# Altium schematic symbol library MS-Electronic.SchLib: 364 symbols (part 1 of 4)
Pins are listed as number, name and electrical type; pins without a type are passive.

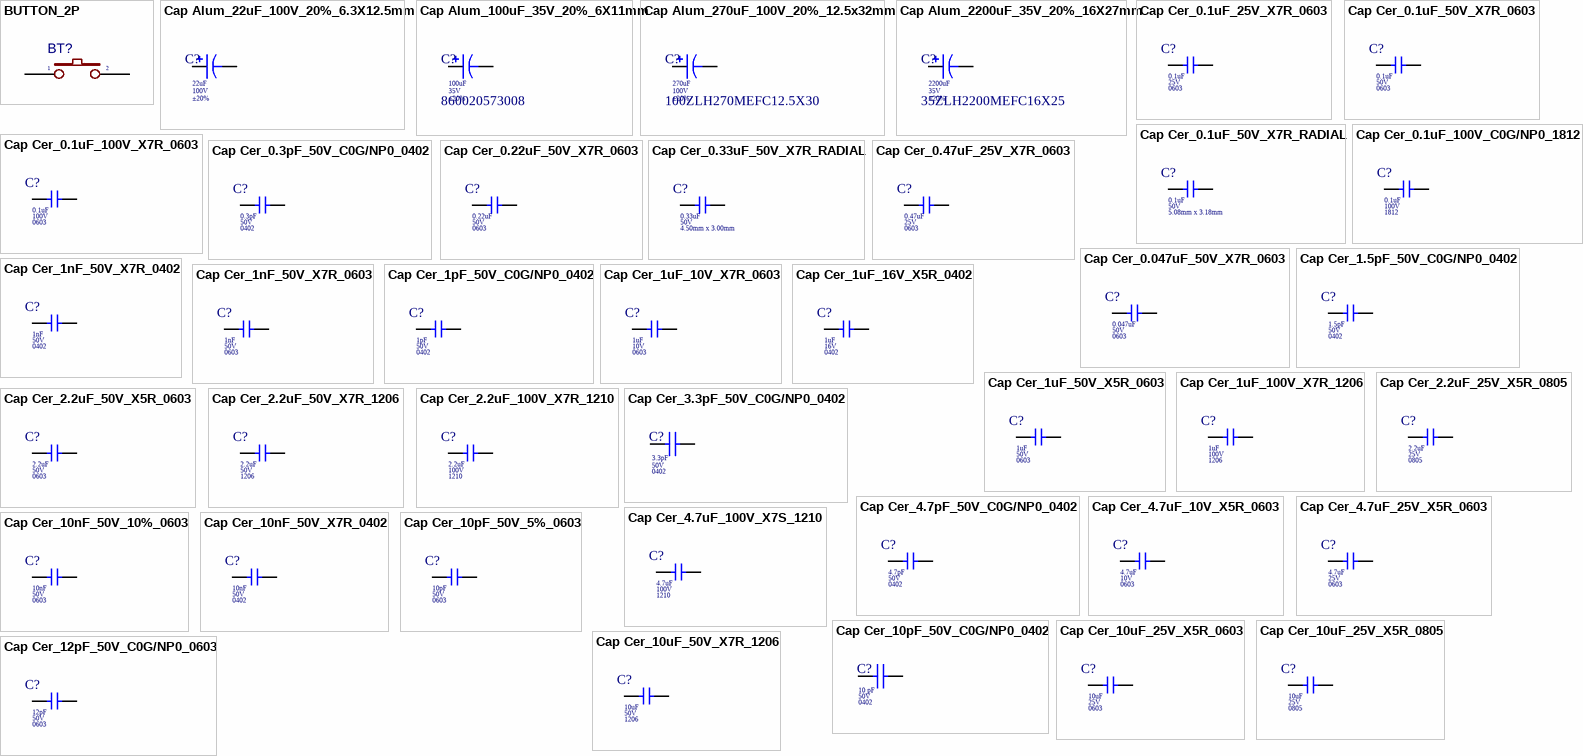
[diagram p0: symbols BUTTON_2P to Cap Cer_12pF_50V_C0G/NP0_0603]

## BUTTON_2P
designator BT?  (value not drawn)
TACT 6.0 X 3.5, 2.5 MM H, 180GF,; Manufacturer Part Number: 1502-2(180g); Description SEL: TACT 6.0 X 3.5, 2.5 MM H, 180GF,; Footprint Type: SMD; ComponentLink1Description: CXT; ComponentLink1URL: https://linhkien.cxtvn.com/1779-nut-nhan-smd-2p.html
footprint BUTTON_2P_SMD
pins: 1, 2

## Cap Alum_22uF_100V_20%_6.3X12.5mm
designator C?, comment Tolerance: ±20%  Voltage: 100V  Capacitance: 22uF  (hidden comment: ESK226M100AE3AA)
CAP ALUM 22UF 20% 100V RADIAL TH; Manufacturer: KEMET; Hight: 12.5mm; Part Number: ESK226M100AE3AA; Dimension: 6.3mm; ComponentLink1Description: BLK; ComponentLink1URL: https://banlinhkien.com/tu-hoa-22uf-100v-10-chiec-p22441916.html; ComponentLink2Description: DIGIKEY; ComponentLink2URL: https://www.digikey.bg/en/products/detail/kemet/ESK226M100AE3AA/13176289
footprint CAP ALUM_6.3X12.5mm
pins: 1, 2
1 alternate drawing of the same symbol

## Cap Alum_100uF_35V_20%_6X11mm
designator C?, comment 860020573008  Tolerance: ±20%  Voltage: 35V  Capacitance: 100uF
CAP ALUM 100UF 20% 35V RADIAL TH; Manufacturer: Würth Elektronik; Hight: 11mm; Part Number: 860020573008; Dimension: 6mm; ComponentLink1Description: BLK; ComponentLink1URL: https://banlinhkien.com/tu-hoa-100uf-35v-6x11mm-10-chiec-p22441912.html; ComponentLink2Description: DIGIKEY; ComponentLink2URL: https://www.digikey.bg/en/products/detail/w%C3%BCrth-elektronik/860020573008/5727177
footprint CAP ALUM_6X11mm
pins: 1, 2
1 alternate drawing of the same symbol

## Cap Alum_270uF_100V_20%_12.5x32mm
designator C?, comment 100ZLH270MEFC12.5X30  Tolerance: ±20%  Voltage: 100V  Capacitance: 270uF
CAP ALUM 270UF 20% 100V RADIAL; Manufacturer: Rubycon; Hight: 32mm; Part Number: 100ZLH270MEFC12.5X30; Dimension: 12.5mm; ComponentLink2Description: DIGIKEY; ComponentLink2URL: https://www.digikey.com/en/products/detail/rubycon/100ZLH270MEFC12-5X30/3564205?s=N4IgTCBcDaIIwAYEC0AyAJMB2BBZAogGIDCcYAdAKwAaAzAiALoC%2BQA
footprint CAP ALUM_13mmx32mm
pins: 1, 2
1 alternate drawing of the same symbol

## Cap Alum_2200uF_35V_20%_16X27mm
designator C?, comment 35ZLH2200MEFC16X25  Tolerance: ±20%  Voltage: 35V  Capacitance: 2200uF
CAP ALUM 2200UF 20% 35V RADIAL; Manufacturer: Rubycon; Hight: 27mm; Part Number: 35ZLH2200MEFC16X25; Dimension: 16mm; ComponentLink1Description: TGIC; ComponentLink1URL: https://www.thegioiic.com/tu-hoa-2200uf-35v-16x27mm-xuyen-lo; ComponentLink2Description: DIGIKEY; ComponentLink2URL: https://www.digikey.bg/en/products/detail/rubycon/35ZLH2200MEFC16X25/3564493; ComponentLink3Description: BLK; ComponentLink3URL: https://banlinhkien.com/tu-hoa-2200uf-35v-16x25mm-p6646100.html
footprint CAP ALUM_16X27mm
pins: 1, 2
1 alternate drawing of the same symbol

## Cap Cer_0.1uF_25V_X7R_0603
designator C?, comment value 0.1uF  Package: 0603  Voltage: 25V  (hidden comment: CC0603KRX7R8BB104)
CAP CER 0.1UF 25V X7R 0603; ComponentLink1Description: New link; ComponentLink1URL: https://www.digikey.com/en/products/detail/yageo/CC0603KRX7R8BB104/2103079
footprint Cap_0603
pins: 1, 2

## Cap Cer_0.1uF_50V_X7R_0603
designator C?, comment value 0.1uF  Package: 0603  Voltage: 50V  (hidden comment: CL10B104KB8NNNC)
CAP CER 0.1UF 50V X7R 0603; ComponentLink1Description: CXT; ComponentLink1URL: https://linhkien.cxtvn.com/1981-tu-0603-khong-phan-cuc.html; ComponentLink2Description: DIGIKEY; ComponentLink2URL: https://www.digikey.com/en/products/detail/samsung-electro-mechanics/CL10B104KB8NNNC/3886658
footprint Cap_0603
pins: 1, 2

## Cap Cer_0.1uF_50V_X7R_RADIAL
designator C?, comment value 0.1uF  Dimension: 5.08mm x 3.18mm  Voltage: 50V  (hidden comment: C320C104K5R5TA)
CAP CER 0.1UF 50V X7R RADIAL; ComponentLink1Description: CXT; ComponentLink1URL: https://linhkienchatluong.vn/tu-monolithic---tu-vang/tu-su-vang-104-100nf-01uf-50v-10-10c_sp458_ct14569.aspx; ComponentLink2Description: DIGIKEY; ComponentLink2URL: https://www.digikey.bg/en/products/detail/kemet/C320C104K5R5TA/818040
footprint CAP Cer_RADIAL_5.08mm x 3.18mm
pins: 1, 2

## Cap Cer_0.1uF_100V_C0G/NP0_1812
designator C?, comment value 0.1uF  Package: 1812  Voltage: 100V  (hidden comment: C1812C104J1GACAUTO)
CAP CER 0.1UF 100V C0G/NP0 1812; ComponentLink1Description: CXT; ComponentLink2Description: DIGIKEY; ComponentLink2URL: https://www.digikey.bg/en/products/detail/kemet/C1812C104J1GACAUTO/7516235?s=N4IgTCBcDaIMIEYAcCyIAwBYBSCDiAgnAQKoAqA8iALoC%2BQA
footprint CAP_1812
pins: 1, 2

## Cap Cer_0.1uF_100V_X7R_0603
designator C?, comment value 0.1uF  Package: 0603  Voltage: 100V  (hidden comment: CL10B104KC8NNNC)
CAP CER 0.1UF 100V X7R 0603; ComponentLink1Description: CXT; ComponentLink1URL: https://linhkien.cxtvn.com/4493-tu-0603-khong-phan-cuc.html; ComponentLink2Description: DIGIKEY; ComponentLink2URL: https://www.digikey.bg/en/products/detail/samsung-electro-mechanics/CL10B104KC8NNNC/5961291
footprint Cap_0603
pins: 1, 2

## Cap Cer_0.3pF_50V_C0G/NP0_0402
designator C?, comment value 0.3pF  Package: 0402  Voltage: 50V  (hidden comment: GJM1555C1HR30WB01D)
CAP CER 0.3PF 50V C0G/NP0 0402; ComponentLink1Description: New link; ComponentLink1URL: https://www.digikey.bg/en/products/detail/murata-electronics/GJM1555C1HR30WB01D/2593245?s=N4IgTCBcDaIOICkCyBGArBgwigEgJQGYAGAdQCEiUAREAXQF8g
footprint Cap_0402
pins: 1, 2

## Cap Cer_0.22uF_50V_X7R_0603
designator C?, comment value 0.22uF  Package: 0603  Voltage: 50V  (hidden comment: GCM188R71H224KA64D)
CAP CER 0.22UF 50V X7R 0603; ComponentLink1Description: DIGIKEY; ComponentLink1URL: https://www.digikey.com/en/products/detail/murata-electronics/GCM188R71H224KA64D/2123158
footprint Cap_0603
pins: 1, 2

## Cap Cer_0.33uF_50V_X7R_RADIAL
designator C?, comment value 0.33uF  Dimension: 4.50mm x 3.00mm  Voltage: 50V  (hidden comment: FG24X7R1H334KNT06)
CAP CER 0.33UF 50V X7R RADIAL; ComponentLink1Description: CXT; ComponentLink1URL: https://linhkienchatluong.vn/tu-monolithic---tu-vang/tu-su-vang-334-330nf-033uf-50v-10c_sp458_ct14571.aspx; ComponentLink2Description: DIGIKEY; ComponentLink2URL: https://www.digikey.bg/en/products/detail/tdk-corporation/FG24X7R1H334KNT06/5802993
footprint CAP CER_RADIAL_4.5X3mm
pins: 1, 2

## Cap Cer_0.47uF_25V_X7R_0603
designator C?, comment value 0.47uF  Package: 0603  Voltage: 25V  (hidden comment: 0603B474K250CT)
CAP CER 0.47UF 25V X7R 0603; ComponentLink1Description: CXT; ComponentLink1URL: https://linhkien.cxtvn.com/4765-tu-0603-khong-phan-cuc.html; ComponentLink2Description: DIGIKEY; ComponentLink2URL: https://www.digikey.bg/en/products/detail/walsin-technology-corporation/0603B474K250CT/9354949?s=N4IgTCBcDaIAwDY4GYBCAWA7Og0mArHAMIAqIAugL5A
footprint Cap_0603
pins: 1, 2

## Cap Cer_0.047uF_50V_X7R_0603
designator C?, comment value 0.047uF  Package: 0603  Voltage: 50V  (hidden comment: C1608X7R1H473K080AA)
CAP CER 0.047UF 50V X7R 0603; ComponentLink1Description: TGIC; ComponentLink1URL: https://www.thegioiic.com/tu-gom-0603-47nf-50v; ComponentLink2Description: DIGIKEY; ComponentLink2URL: https://www.digikey.bg/en/products/detail/tdk-corporation/C1608X7R1H473K080AA/513823
footprint Cap_0603
pins: 1, 2

## Cap Cer_1.5pF_50V_C0G/NP0_0402
designator C?, comment value 1.5pF  Package: 0402  Voltage: 50V  (hidden comment: RF15N1R5B500CT)
CAP CER 1.5PF 50V C0G/NP0 0402; ComponentLink1Description: CXT; ComponentLink1URL: https://linhkien.cxtvn.com/8768-tu-khong-phan-cuc-0402.html; ComponentLink2Description: MOUSER; ComponentLink2URL: https://www.mouser.com/ProductDetail/Walsin/RF15N1R5B500CT?qs=ZrPdAQfJ6DML5%252BefXykpgg%3D%3D
footprint Cap_0402
pins: 1, 2

## Cap Cer_1nF_50V_X7R_0402
designator C?, comment value 1nF  Package: 0402  Voltage: 50V  (hidden comment: GRM155R71H102KA01D)
CAP CER 1000PF 50V X7R 0402; ComponentLink1Description: CXT; ComponentLink1URL: https://linhkien.cxtvn.com/3435-tu-khong-phan-cuc-0402.html; ComponentLink2Description: DIGIKEY; ComponentLink2URL: https://www.digikey.bg/en/products/detail/murata-electronics/GRM155R71H102KA01D/587225?s=N4IgTCBcDaIOICUCyBGArGhB2FAJFADGANICCBKAIiALoC%2BQA
footprint Cap_0402
pins: 1, 2

## Cap Cer_1nF_50V_X7R_0603
designator C?, comment value 1nF  Package: 0603  Voltage: 50V  (hidden comment: C0603X102K5RAC3316)
CAP CER 0603 1NF 50V X7R 10%; ComponentLink1Description: CXT; ComponentLink1URL: https://linhkien.cxtvn.com/2701-tu-0603-khong-phan-cuc.html; ComponentLink2Description: DIGIKEY; ComponentLink2URL: https://www.digikey.com/en/products/detail/kemet/C0603X102K5RAC3316/10315783
footprint Cap_0603
pins: 1, 2

## Cap Cer_1pF_50V_C0G/NP0_0402
designator C?, comment value 1pF  Package: 0402  Voltage: 50V  (hidden comment: CC0402BRNPO9BN1RO)
CAP CER 1PF 50V C0G/NP0 0402; ComponentLink1Description: New link; ComponentLink1URL: https://linhkien.cxtvn.com/8767-tu-khong-phan-cuc-0402.html
footprint Cap_0402
pins: 1, 2

## Cap Cer_1uF_10V_X7R_0603
designator C?, comment value 1uF  Package: 0603  Voltage: 10V  (hidden comment: CL10B105KP8NNNC)
CAP CER 1UF 10V X7R 0603; ComponentLink1Description: 25V; ComponentLink1URL: https://linhkien.cxtvn.com/11400-tu-0603-khong-phan-cuc.html; ComponentLink2Description: 10V; ComponentLink2URL: https://www.digikey.com/en/products/detail/samsung-electro-mechanics/CL10B105KP8NNNC/3887604
footprint Cap_0603
pins: 1, 2

## Cap Cer_1uF_16V_X5R_0402
designator C?, comment value 1uF  Package: 0402  Voltage: 16V  (hidden comment: GRM155R61C105KA12D)
CAP CER 1UF 16V X5R 0402; ComponentLink1Description: CXT; ComponentLink1URL: https://linhkien.cxtvn.com/4361-tu-khong-phan-cuc-0402.html; ComponentLink2Description: DIGIKEY; ComponentLink2URL: https://www.digikey.bg/en/products/detail/murata-electronics/GRM155R61C105KA12D/4905129?s=N4IgTCBcDaIOICUCyBGArGhA2FBhFADGgNICCKYAIiALoC%2BQA
footprint Cap_0402
pins: 1, 2

## Cap Cer_1uF_50V_X5R_0603
designator C?, comment value 1uF  Package: 0603  Voltage: 50V  (hidden comment: CL10A105KB8NNNC)
CAP CER 1UF 50V X5R 0603; ComponentLink1Description: BLK; ComponentLink1URL: https://banlinhkien.com/tu-0603-1051uf-50v-10-10c-p6646055.html; ComponentLink2Description: DIGIKEY; ComponentLink2URL: https://www.digikey.com/en/products/detail/samsung-electro-mechanics/CL10A105KB8NNNC/3887518?s=N4IgTCBcDaIMIBkCMAGAgqgrAaQEIA4A5YuEAXQF8g
footprint Cap_0603
pins: 1, 2

## Cap Cer_1uF_100V_X7R_1206
designator C?, comment value 1uF  Package: 1206  Voltage: 100V  (hidden comment: 1206B105K101CT)
CAP CER 1UF 100V X7R 1206; ComponentLink1Description: CXT; ComponentLink1URL: https://linhkien.cxtvn.com/3027-tu-khong-phan-cuc-1206.html; ComponentLink2Description: DIGIKEY; ComponentLink2URL: https://www.digikey.bg/en/products/detail/walsin-technology-corporation/1206B105K101CT/14836811?s=N4IgTCBcDaIIxgAwDYBCdEFYDSG4GEAVEAXQF8g
footprint Cap_1206
pins: 1, 2

## Cap Cer_2.2uF_25V_X5R_0805
designator C?, comment value 2.2uF  Package: 0805  Voltage: 25V  (hidden comment: 0805X225K250CT)
CAP CER 2.2UF 25V X5R 0805; ComponentLink1Description: CXT; ComponentLink1URL: https://linhkien.cxtvn.com/2664-tu-khong-phan-cuc-0805.html; ComponentLink2Description: DIGIKEY; ComponentLink2URL: https://www.digikey.bg/en/products/detail/walsin-technology-corporation/0805X225K250CT/14836825?s=N4IgTCBcDaIAwA44FYAaYzINKbgYQBUQBdAXyA
footprint Cap_0805
pins: 1, 2

## Cap Cer_2.2uF_50V_X5R_0603
designator C?, comment value 2.2uF  Package: 0603  Voltage: 50V  (hidden comment: GRM188R61H225KE11D)
CAP CER 2.2UF 50V X5R 0603; ComponentLink1Description: CXT; ComponentLink1URL: https://linhkien.cxtvn.com/2354-tu-0603-khong-phan-cuc.html; ComponentLink2Description: DIGIKEY; ComponentLink2URL: https://www.digikey.sg/en/products/detail/murata-electronics/GRM188R61H225KE11D/4905363
footprint Cap_0603
pins: 1, 2

## Cap Cer_2.2uF_50V_X7R_1206
designator C?, comment value 2.2uF  Package: 1206  Voltage: 50V  (hidden comment: CL31B225KBHNNNE)
CAP CER 2.2UF 50V X7R 1206; ComponentLink1Description: TGIC; ComponentLink1URL: https://www.thegioiic.com/tu-gom-1206-2-2uf-50v; ComponentLink2Description: DIGIKEY; ComponentLink2URL: https://www.digikey.com/en/products/detail/samsung-electro-mechanics/CL31B225KBHNNNE/3886949
footprint Cap_1206
pins: 1, 2

## Cap Cer_2.2uF_100V_X7R_1210
designator C?, comment value 2.2uF  Package: 1210  Voltage: 100V  (hidden comment: CL32B225KCJSNNE)
CAP CER 2.2UF 100V X7R 1210; ComponentLink1Description: CXT; ComponentLink1URL: https://linhkien.cxtvn.com/4174-tu-1210-khong-phan-cuc.html; ComponentLink2Description: DIGIKEY; ComponentLink2URL: https://www.digikey.bg/en/products/detail/samsung-electro-mechanics/CL32B225KCJSNNE/3889020
footprint Cap_1210 (Capacitor 1210)
pins: 1, 2

## Cap Cer_3.3pF_50V_C0G/NP0_0402
designator C?, comment value 3.3pF  Package: 0402  Voltage: 50V  (hidden comment: GJM1555C1H3R3WB01D)
CAP CER 3.3PF 50V C0G/NP0 0402; Manufacturer: Murata; Manufacturer_Part_Number: GJM1555C1H3R3WB01D; ComponentLink2Description: LKD; ComponentLink2URL: https://banlinhkiendientu.vn/tu-dan-0402-3-3pf-50v-5-day-10-chiec/; ComponentLink3Description: DIGIKEY; ComponentLink3URL: https://www.digikey.com/en/products/detail/murata-electronics/GJM1555C1H3R3WB01D/2592957?s=N4IgTCBcDaIOICkCyBGArBgwigEgZgCU8B1AIQAYUAREAXQF8g
footprint Cap_0402
pins: 1, 2

## Cap Cer_4.7pF_50V_C0G/NP0_0402
designator C?, comment value 4.7pF  Package: 0402  Voltage: 50V  (hidden comment: C1005NP0479CGTS)
CAP CER 4.7PF 50V C0G/NP0 0402; ComponentLink1Description: LKD; ComponentLink1URL: https://banlinhkiendientu.vn/tu-dan-0402-4-7pf-50v-5-day-10-chiec/; ComponentLink2Description: DIGIKEY; ComponentLink2URL: https://www.digikey.bg/en/products/detail/darfon/C1005NP0479CGTS/15286261?s=N4IgTCBcDaIMIEYAMSCsA5ACkgLAdgE44BxAFQGUQBdAXyA
footprint Cap_0402
pins: 1, 2

## Cap Cer_4.7uF_10V_X5R_0603
designator C?, comment value 4.7uF  Package: 0603  Voltage: 10V  (hidden comment: CL10A475KP8NNNC)
CAP CER 4.7UF 10V X5R 0603; ComponentLink1Description: CXT; ComponentLink1URL: https://linhkien.cxtvn.com/2759-tu-0603-khong-phan-cuc.html; ComponentLink2Description: DIGIKEY; ComponentLink2URL: https://www.digikey.com/en/products/detail/samsung-electro-mechanics/CL10A475KP8NNNC/3886702
footprint Cap_0603
pins: 1, 2

## Cap Cer_4.7uF_25V_X5R_0603
designator C?, comment value 4.7uF  Package: 0603  Voltage: 25V  (hidden comment: GRM188R61E475KE11D)
CAP CER 4.7UF 25V X5R 0603; ComponentLink1Description: TGIC; ComponentLink1URL: https://www.thegioiic.com/tu-gom-0603-4-7uf-25v; ComponentLink2Description: DIGIKEY; ComponentLink2URL: https://www.digikey.com/en/products/detail/murata-electronics/GRM188R61E475KE11D/3900465
footprint Cap_0603
pins: 1, 2

## Cap Cer_4.7uF_100V_X7S_1210
designator C?, comment value 4.7uF  Package: 1210  Voltage: 100V  (hidden comment: GCM32DC72A475KE02L)
CAP CER 4.7UF 100V X7S 1210; ComponentLink1Description: CXT 50V; ComponentLink1URL: https://linhkien.cxtvn.com/3437-tu-1210-khong-phan-cuc.html; ComponentLink2Description: DIGIKEY; ComponentLink2URL: https://www.digikey.bg/en/products/detail/murata-electronics/GCM32DC72A475KE02L/6606113?s=N4IgTCBcDaIAQHEDCBZAzGAIkg7GAggCw4CsA0gKIAMYAMiALoC%2BQA
footprint Cap_1210 (Capacitor 1210)
pins: 1, 2

## Cap Cer_10nF_50V_10%_0603
designator C?, comment value 10nF  Package: 0603  Voltage: 50V  (hidden comment: 06035A103KAT2A)
CAP CER 10nF 50V 10% 0603; ComponentLink1Description: CXT; ComponentLink1URL: https://linhkien.cxtvn.com/2353-tu-0603-khong-phan-cuc.html; ComponentLink2Description: MOUSER; ComponentLink2URL: https://www.mouser.com/ProductDetail/KYOCERA-AVX/06035A103KAT2A?qs=sGAEpiMZZMukHu%252BjC5l7Yb5oPaw27JT5ryvJSzX08SI%3D
footprint Cap_0603
pins: 1, 2

## Cap Cer_10nF_50V_X7R_0402
designator C?, comment value 10nF  Package: 0402  Voltage: 50V  (hidden comment: GRM155R71H103KA88D)
CAP CER 10000PF 50V X7R 0402; ComponentLink1Description: CXT; ComponentLink1URL: https://linhkien.cxtvn.com/4360-tu-khong-phan-cuc-0402.html; ComponentLink2Description: DIGIKEY; ComponentLink2URL: https://www.digikey.bg/en/products/detail/murata-electronics/GRM155R71H103KA88D/1033252?s=N4IgTCBcDaIOICUCyBGArGhB2FAJFADAMwDSAggBwUAiIAugL5A
footprint Cap_0402
pins: 1, 2

## Cap Cer_10pF_50V_5%_0603
designator C?, comment value 10pF  Package: 0603  Voltage: 50V  (hidden comment: 0603N100J500CT)
CAP CER 10pF 50V 5% 0603; ComponentLink1Description: CXT; ComponentLink1URL: https://linhkien.cxtvn.com/4432-tu-0603-khong-phan-cuc.html; ComponentLink2Description: DIGIKEY; ComponentLink2URL: https://www.digikey.com/en/products/detail/walsin-technology-corporation/0603N100J500CT/9354968
footprint Cap_0603
pins: 1, 2

## Cap Cer_10pF_50V_C0G/NP0_0402
designator C?, comment value 10 pF  Package: 0402  Voltage: 50V  (hidden comment: GJM1555C1H100FB01D)
CAP CER 10PF 50V C0G/NP0 0402; Manufacturer: MURATA; Manufacturer_Part_Number: GJM1555C1H100FB01D; ComponentLink1Description: CXT; ComponentLink1URL: https://linhkien.cxtvn.com/2909-tu-khong-phan-cuc-0402.html; ComponentLink2Description: DIGIKEY; ComponentLink2URL: https://www.digikey.com/en/products/detail/murata-electronics/GJM1555C1H100FB01D/2592845?s=N4IgTCBcDaIOICkCyBGArBgwigEigDPgGIBC%2BKAIiALoC%2BQA
footprint Cap_0402
pins: 1, 2

## Cap Cer_10uF_25V_X5R_0603
designator C?, comment value 10uF  Package: 0603  Voltage: 25V  (hidden comment: CL10A106MA8NRNC)
CAP CER 10UF 25V X5R 0603; ComponentLink1Description: CXT; ComponentLink1URL: https://linhkien.cxtvn.com/2886-tu-0603-khong-phan-cuc.html; ComponentLink2Description: DIGIKEY; ComponentLink2URL: https://www.digikey.com/en/products/detail/samsung-electro-mechanics/CL10A106MA8NRNC/3887527
footprint Cap_0603
pins: 1, 2

## Cap Cer_10uF_25V_X5R_0805
designator C?, comment value 10uF  Package: 0805  Voltage: 25V  (hidden comment: CL21A106KAYNNNE)
CAP CER 10UF 25V X5R 0805; ComponentLink1Description: CXT; ComponentLink1URL: https://linhkien.cxtvn.com/1978-tu-khong-phan-cuc-0805.html; ComponentLink2Description: DIGIKEY; ComponentLink2URL: https://www.digikey.bg/en/products/detail/samsung-electro-mechanics/CL21A106KAYNNNE/3888549?s=N4IgTCBcDaIMIBkwEYCCyAMA2A0qgmgHLECiIAugL5A
footprint Cap_0805
pins: 1, 2

## Cap Cer_10uF_50V_X7R_1206
designator C?, comment value 10uF  Package: 1206  Voltage: 50V  (hidden comment: CL31B106KBHNNNE)
CAP CER 10UF 50V X7R 1206; ComponentLink1Description: CXT; ComponentLink1URL: https://linhkien.cxtvn.com/8778-tu-khong-phan-cuc-1206.html; ComponentLink2Description: DIGIKEY; ComponentLink2URL: https://www.digikey.com/en/products/detail/samsung-electro-mechanics/CL31B106KBHNNNE/5961251
footprint Cap_1206
pins: 1, 2

## Cap Cer_12pF_50V_C0G/NP0_0603
designator C?, comment value 12pF  Package: 0603  Voltage: 50V  (hidden comment: 0603N120J500CT)
CAP CER 12PF 50V C0G/NP0 0603; ComponentLink1Description: CXT; ComponentLink1URL: https://linhkien.cxtvn.com/1980-tu-0603-khong-phan-cuc.html; ComponentLink2Description: DIGIKEY; ComponentLink2URL: https://www.digikey.bg/en/products/detail/walsin-technology-corporation/0603N120J500CT/9354977?s=N4IgTCBcDaIAwDY4GYByBGMcBSBWOcAwgCogC6AvkA
footprint Cap_0603
pins: 1, 2

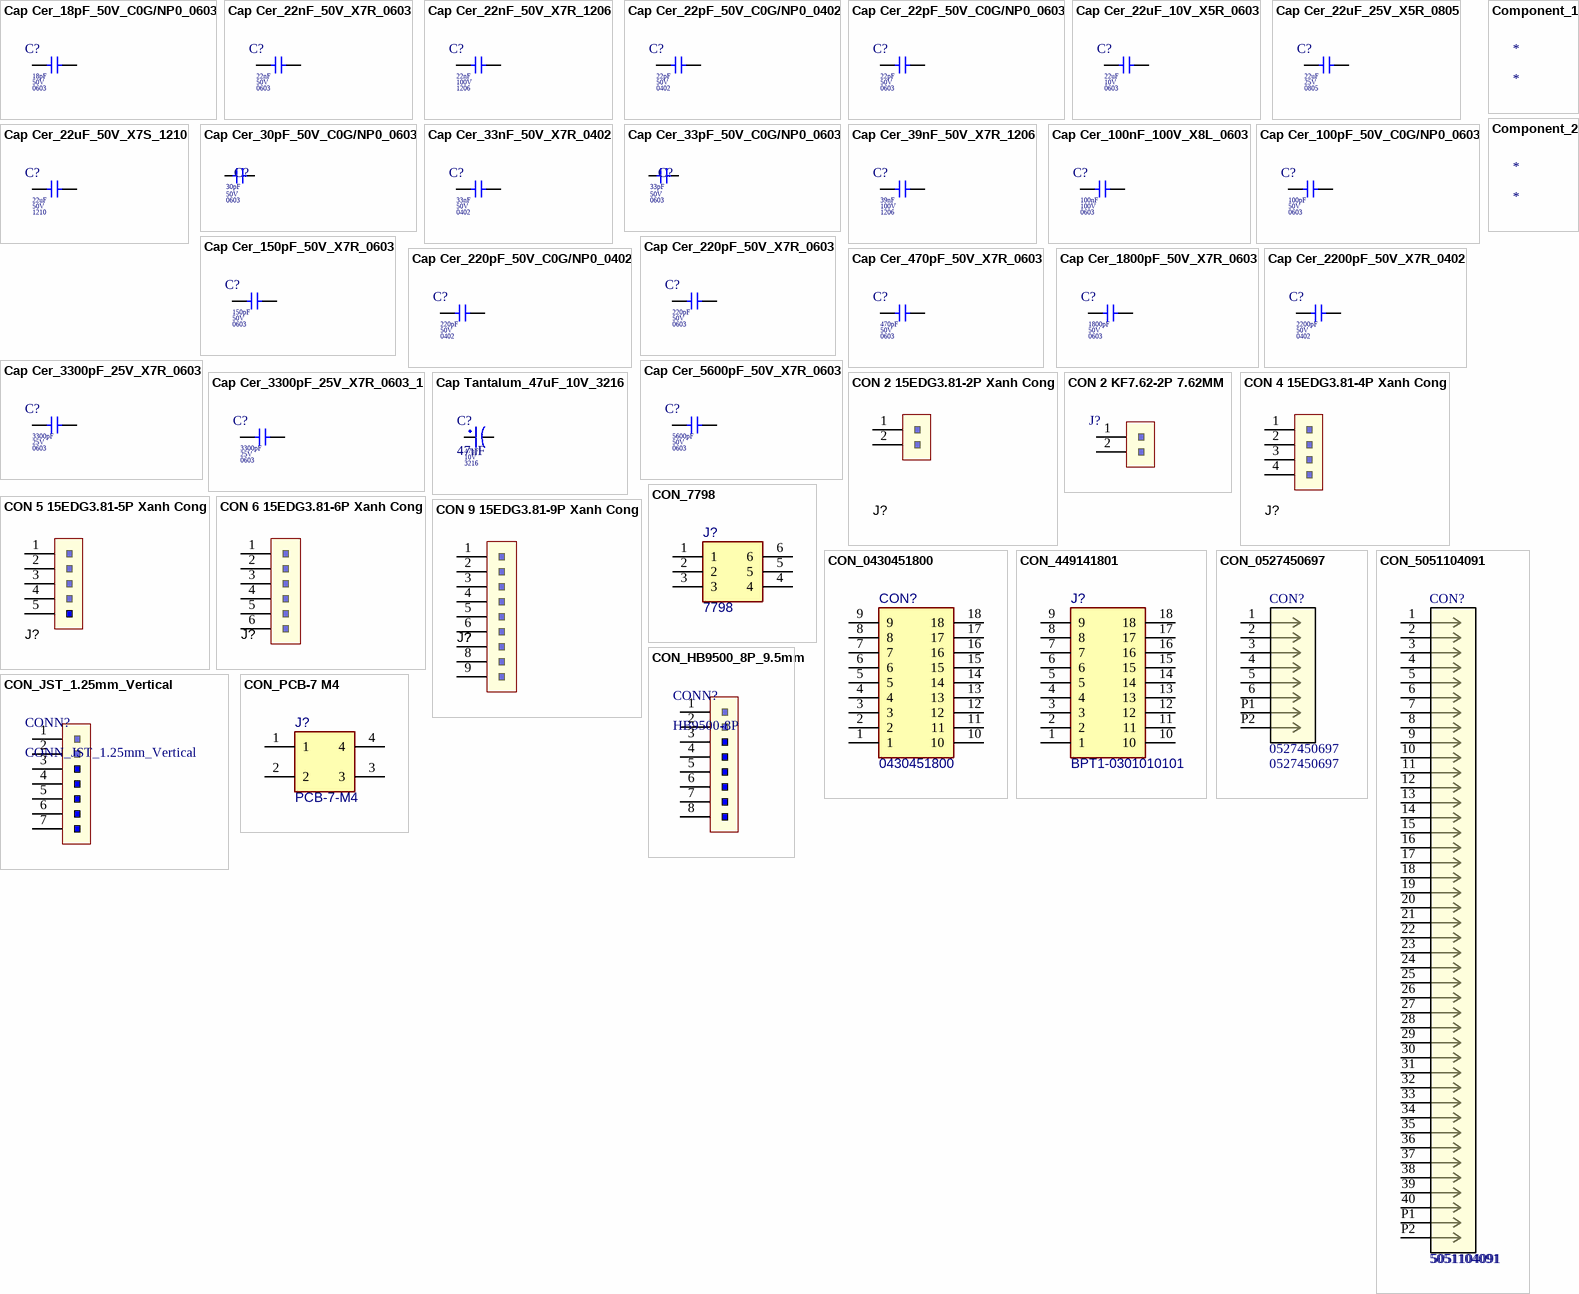
[diagram p1: symbols Cap Cer_18pF_50V_C0G/NP0_0603 to CON_PCB-7 M4]

## Cap Cer_18pF_50V_C0G/NP0_0603
designator C?, comment value 18pF  Package: 0603  Voltage: 50V  (hidden comment: 0603N180J500CT)
CAP CER 18PF 50V C0G/NP0 0603; ComponentLink1Description: CXT; ComponentLink1URL: https://linhkien.cxtvn.com/2397-tu-0603-khong-phan-cuc.html; ComponentLink2Description: DIGIKEY; ComponentLink2URL: https://www.digikey.bg/en/products/detail/walsin-technology-corporation/0603N180J500CT/9354991?s=N4IgTCBcDaIAwDY4GYByBGAHHAUgVjjgGEAVEAXQF8g
footprint Cap_0603
pins: 1, 2

## Cap Cer_22nF_50V_X7R_0603
designator C?, comment value 22nF  Package: 0603  Voltage: 50V  (hidden comment: CL10B223KB8NNNC)
CAP CER 0.022UF 50V X7R 0603; ComponentLink1Description: CXT; ComponentLink1URL: https://linhkien.cxtvn.com/2513-tu-0603-khong-phan-cuc.html; ComponentLink2Description: DIGIKEY; ComponentLink2URL: https://www.digikey.bg/en/products/detail/samsung-electro-mechanics/CL10B223KB8NNNC/3886762?s=N4IgTCBcDaIMIBkCMAGAQmMBmA0mgHAHLFwgC6AvkA
footprint Cap_0603
pins: 1, 2

## Cap Cer_22nF_50V_X7R_1206
designator C?, comment value 22nF  Package: 1206  Voltage: 100V  (hidden comment: KGM31BR72A393KT)
CAP CER 0.022UF 100V X7R 1206; ComponentLink2Description: DIGIKEY; ComponentLink2URL: https://www.digikey.bg/en/products/detail/yageo/CC1206KRX7R0BB223/5195392?s=N4IgTCBcDaIMJwIxgAwDYDSAlAGgdixQCEiwwBmEAXQF8g
footprint Cap_1206
pins: 1, 2

## Cap Cer_22pF_50V_C0G/NP0_0402
designator C?, comment value 22pF  Package: 0402  Voltage: 50V  (hidden comment: 0402N220F500CT)
CAP CER 22PF 50V C0G/NP0 0402; ComponentLink1Description: CXT; ComponentLink1URL: https://linhkien.cxtvn.com/4210-tu-khong-phan-cuc-0402.html; ComponentLink2Description: DIGIKEY; ComponentLink2URL: https://www.digikey.bg/en/products/detail/walsin-technology-corporation/0402N220F500CT/9354777?s=N4IgTCBcDaIAwBY5gHJjHAYgVjnAwgCogC6AvkA
footprint Cap_0402
pins: 1, 2

## Cap Cer_22pF_50V_C0G/NP0_0603
designator C?, comment value 22pF  Package: 0603  Voltage: 50V  (hidden comment: C0603C220J5GACTU)
CAP CER 22PF 50V C0G/NP0 0603; ComponentLink1Description: CXT; ComponentLink1URL: https://linhkien.cxtvn.com/2697-tu-0603-khong-phan-cuc.html; ComponentLink2Description: DIGIKEY; ComponentLink2URL: https://www.digikey.com/en/products/detail/kemet/C0603C220J5GACTU/411055?s=N4IgTCBcDaIMIAYBsCDMcxgQKQKwHEBBOAFQFUQBdAXyA
footprint Cap_0603
pins: 1, 2

## Cap Cer_22uF_10V_X5R_0603
designator C?, comment value 22uF  Package: 0603  Voltage: 10V  (hidden comment: CL10A226MP8NUNE)
CAP CER 22UF 10V X5R 0603; ComponentLink1Description: CXT; ComponentLink1URL: https://linhkien.cxtvn.com/4556-tu-0603-khong-phan-cuc.html; ComponentLink2Description: DIGIKEY; ComponentLink2URL: https://www.digikey.com/en/products/detail/samsung-electro-mechanics/CL10A226MP8NUNE/3886932
footprint Cap_0603
pins: 1, 2

## Cap Cer_22uF_25V_X5R_0805
designator C?, comment value 22uF  Package: 0805  Voltage: 25V  (hidden comment: CL21A226MAYNNNE)
CAP CER 22UF 25V X5R 0805; ComponentLink1Description: LKCL; ComponentLink1URL: https://linhkienchatluong.vn/tu-dan-0805/tu-dan-0805-226-22uf-25v-20-10c_sp1293_ct16943.aspx; ComponentLink2Description: DIGIKEY; ComponentLink2URL: https://www.digikey.com/en/products/detail/samsung-electro-mechanics/CL21A226MAYNNNE/10479857
footprint Cap_0805
pins: 1, 2

## Cap Cer_22uF_50V_X7S_1210
designator C?, comment value 22uF  Package: 1210  Voltage: 50V  (hidden comment: cap 22uF 50V 10% 1210)
CAP CER 22uF 50V 10% 1210; ComponentLink1Description: CXT 50V; ComponentLink1URL: https://linhkien.cxtvn.com/7149-tu-1210-khong-phan-cuc.html
footprint Cap_1210 (Capacitor 1210)
pins: 1, 2

## Cap Cer_30pF_50V_C0G/NP0_0603
designator C?, comment Capacitance: 30pF  Voltage: 50V  Package: 0603  (hidden comment: 0603N300J500CT)
CAP CER 30PF 50V C0G/NP0 0603; Manufacture 1: Walsin Technology Corporation; Mouting Type: SMD; Type: CAP-CER; Temp Coef: C0G,NP0; Tolerance: 5%; Manufacture Part Number 1: 0603N300J500CT; MSL: 1; Temperature: -55°C ~ 125°C; ComponentLink1Description: CXT; ComponentLink1URL: https://linhkien.cxtvn.com/10945-tu-30pf-0603-50v-10-10c.html/page-92; ComponentLink2Description: DIGIKEY; ComponentLink2URL: https://www.digikey.bg/en/products/detail/walsin-technology-corporation/0603N300J500CT/9355012
footprint Cap_0603
pins: 1, 2

## Cap Cer_33nF_50V_X7R_0402
designator C?, comment value 33nF  Package: 0402  Voltage: 50V  (hidden comment: CC0402KRX7R9BB333)
CAP CER 0.033UF 50V X7R 0402; ComponentLink1Description: LKD; ComponentLink1URL: https://banlinhkiendientu.vn/tu-dan-0402-333-33nf-50v-10-day-10-chiec/; ComponentLink2Description: DIGIKEY; ComponentLink2URL: https://www.digikey.bg/en/products/detail/yageo/CC0402KRX7R9BB333/11491014?s=N4IgTCBcDaIMJwAwBZFgNICUAaB2TAnAEJEDM5IAugL5A
footprint Cap_0402
pins: 1, 2

## Cap Cer_33pF_50V_C0G/NP0_0603
designator C?, comment Capacitance: 33pF  Voltage: 50V  Package: 0603  (hidden comment: 0603N330J500CT)
CAP-CER,SMD;33pF,5%,0603,50V,C0G,NP0; Manufacture 1: Walsin Technology Corporation; Manufacture Part Number 1: 0603N330J500CT; Mouting Type: SMD; MSL: 1; Temperature: -55°C ~ 125°C; Type: CAP-CER; Temp Coef: C0G,NP0; Tolerance: 5%; ComponentLink1Description: CXT; ComponentLink1URL: https://linhkien.cxtvn.com/3426-tu-0603-khong-phan-cuc.html; ComponentLink2Description: DIGIKEY; ComponentLink2URL: https://www.digikey.gr/en/products/detail/walsin-technology-corporation/0603N330J500CT/6707550?s=N4IgTCBcDaIAwDY4GYByzlwFIFY5wGEAVEAXQF8g
footprint Cap_0603
pins: 1, 2

## Cap Cer_39nF_50V_X7R_1206
designator C?, comment value 39nF  Package: 1206  Voltage: 100V  (hidden comment: KGM31BR72A393KT)
CAP CER 0.039UF 100V X7R 1206; ComponentLink1Description: TGIC; ComponentLink2Description: DIGIKEY; ComponentLink2URL: https://www.digikey.bg/en/products/detail/kyocera-avx/KGM31BR72A393KT/7536390
footprint Cap_1206
pins: 1, 2

## Cap Cer_100nF_100V_X8L_0603
designator C?, comment value 100nF  Voltage: 100V  Package: 0603  (hidden comment: CL10E104KC8VPNC)
CAP CER 100NF 100V X8L 0603; ComponentLink1Description: CXT; ComponentLink1URL: https://linhkien.cxtvn.com/4493-tu-0603-khong-phan-cuc.html; ComponentLink2Description: DIGIKEY; ComponentLink2URL: https://www.digikey.com/en/products/detail/samsung-electro-mechanics/CL10E104KC8VPNC/20498486
footprint Cap_0603
pins: 1, 2

## Cap Cer_100pF_50V_C0G/NP0_0603
designator C?, comment value 100pF  Package: 0603  Voltage: 50V  (hidden comment: GRM1885C1H101JA01D)
CAP CER 100PF 50V C0G/NP0 0603; ComponentLink1Description: CXT; ComponentLink1URL: https://linhkien.cxtvn.com/2825-tu-0603-khong-phan-cuc.html; ComponentLink2Description: DIGIKEY; ComponentLink2URL: https://www.digikey.com/en/products/detail/murata-electronics/GRM1885C1H101JA01D/586921
footprint Cap_0603
pins: 1, 2

## Cap Cer_150pF_50V_X7R_0603
designator C?, comment value 150pF  Package: 0603  Voltage: 50V  (hidden comment: KGM15AR71H151JT)
CAP CER 150PF 50V X7R 0603; ComponentLink1Description: CXT; ComponentLink2Description: DIGIKEY; ComponentLink2URL: https://www.digikey.bg/en/products/detail/kyocera-avx/KGM15AR71H151JT/1600060
footprint Cap_0603
pins: 1, 2

## Cap Cer_220pF_50V_C0G/NP0_0402
designator C?, comment value 220pF  Package: 0402  Voltage: 50V  (hidden comment: GCM1555C1H221JA16D)
CAP CER 220PF 50V C0G/NP0 0402; ComponentLink1Description: CXT; ComponentLink1URL: https://linhkien.cxtvn.com/2908-tu-khong-phan-cuc-0402.html; ComponentLink2Description: DIGIKEY; ComponentLink2URL: https://www.digikey.bg/en/products/detail/murata-electronics/GCM1555C1H221JA16D/1765175?s=N4IgTCBcDaIOIGECyBGArBhKASYwoCkBBFANgBEQBdAXyA
footprint Cap_0402
pins: 1, 2

## Cap Cer_220pF_50V_X7R_0603
designator C?, comment value 220pF  Package: 0603  Voltage: 50V  (hidden comment: 0603B221K500CT)
CAP CER 220pF 50V X7R 0603; ComponentLink1Description: CXT; ComponentLink1URL: https://linhkien.cxtvn.com/2913-tu-0603-khong-phan-cuc.html; ComponentLink2Description: DIGIKEY; ComponentLink2URL: https://www.digikey.com/en/products/detail/walsin-technology-corporation/0603B221K500CT/9354904
footprint Cap_0603
pins: 1, 2

## Cap Cer_470pF_50V_X7R_0603
designator C?, comment value 470pF  Package: 0603  Voltage: 50V  (hidden comment: VJ0603Y471KXACW1BC)
CAP CER 470PF 50V X7R 0603; ComponentLink1Description: LKCL; ComponentLink1URL: https://linhkienchatluong.vn/tu-dan-0603/tu-dan-0603-471-470pf-047nf-50v-10-10c_sp1063_ct14367.aspx; ComponentLink2Description: DIGIKEY; ComponentLink2URL: https://www.digikey.com/en/products/detail/vishay-vitramon/VJ0603Y471KXACW1BC/420860?s=N4IgTCBcDaIAwDY4GYBCAWA7ARgNIFY44A5AFRAF0BfIA
footprint Cap_0603
pins: 1, 2

## Cap Cer_1800pF_50V_X7R_0603
designator C?, comment value 1800pF  Package: 0603  Voltage: 50V  (hidden comment: C0603C182K5RACTU)
CAP CER 1800PF 50V X7R 0603; ComponentLink1Description: CXT; ComponentLink2Description: DIGIKEY; ComponentLink2URL: https://www.digikey.bg/en/products/detail/kemet/C0603C182K5RACTU/2200109
footprint Cap_0603
pins: 1, 2

## Cap Cer_2200pF_50V_X7R_0402
designator C?, comment value 2200pF  Package: 0402  Voltage: 50V  (hidden comment: GRM155R71H222KA01D)
CAP CER 2200PF 50V X7R 0402; ComponentLink1Description: CXT; ComponentLink1URL: https://linhkien.cxtvn.com/8769-tu-khong-phan-cuc-0402.html; ComponentLink2Description: DIGIKEY; ComponentLink2URL: https://www.digikey.bg/en/products/detail/murata-electronics/GRM155R71H222KA01D/587234?s=N4IgTCBcDaIOICUCyBGArGhB2FAJMBA0gIIAMKAIiALoC%2BQA
footprint Cap_0402
pins: 1, 2

## Cap Cer_3300pF_25V_X7R_0603
designator C?, comment value 3300pF  Package: 0603  Voltage: 25V  (hidden comment: C0603C332J3RACTU)
CAP CER 3300PF 25V X7R 0603; ComponentLink1Description: CXT; ComponentLink1URL: https://linhkienchatluong.vn/tu-dan-0603/tu-dan-0603-332-33nf-50v-10-10c_sp1063_ct14595.aspx; ComponentLink2Description: DIGIKEY; ComponentLink2URL: https://www.digikey.com/en/products/detail/kemet/C0603C332J3RACTU/2200549?s=N4IgTCBcDaIMIAYBsCDMdWrAKVQJQEE4B2ADiWJAF0BfIA
footprint Cap_0603
pins: 1, 2

## Cap Cer_3300pF_25V_X7R_0603_1
designator C?, comment value 3300pF  Package: 0603  Voltage: 25V  (hidden comment: KGM15AR71E332KT)
CAP CER 3300PF 25V X7R 0603; ComponentLink2Description: DIGIKEY; ComponentLink2URL: https://www.digikey.bg/en/products/detail/kyocera-avx/KGM15AR71E332KT/1599455
footprint Cap_0603
pins: 1, 2

## Cap Cer_5600pF_50V_X7R_0603
designator C?, comment value 5600pF  Package: 0603  Voltage: 50V  (hidden comment: CL10B562KB8NNNC)
CAP CER 5600PF 50V X7R 0603; ComponentLink1Description: CXT; ComponentLink2Description: DIGIKEY; ComponentLink2URL: https://www.digikey.bg/en/products/detail/samsung-electro-mechanics/CL10B562KB8NNNC/3887749
footprint Cap_0603
pins: 1, 2

## Cap Tantalum_47uF_10V_3216
designator C?, comment 47uF  Package: 3216  Voltage: 10V
Cap tantalum 476A - 47uF 10V SMD3216; ComponentLink1Description: BLK; ComponentLink1URL: https://banlinhkien.com/tu-tantalum-476a47uf-10v-smd3216-p6650490.html; Value: 47uF
footprint Cap tantalum_3216
pins: 1, 2

## Component_1
designator *

## Component_2
designator *

## CON 2 15EDG3.81-2P Xanh Cong
designator J?, comment 284513-2  (value not drawn)
Terminal Block THT Right Angle 2-Position Header 3.81mm pitch; Manufacturer 1: Tyco Electronics; Pitch: 0.150" (3.81mm); Voltage: 300V; Category: Connectors; Mounting Type: Through Hole; Package / Case: Side Entry; 3.81mm pitch; Manufacturer Part Number 1: 284513-2; ComponentLink1Description: New link; ComponentLink1URL: https://banlinhkien.com/con-2-15edg3.812p-xanh-cong-p6649884.html
footprint CON 2 15EDG3.81-2P
pins: 1, 2

## CON 2 KF7.62-2P 7.62MM
designator J?  (value not drawn)
Current: 20A; Voltage: 300V; ComponentLink1Description: BLK; ComponentLink1URL: https://banlinhkien.com/con-2-kf7.622p-7.62mm-den-thang-p6649864.html; Size: 7.62mm; ComponentLink2Description: CXT; ComponentLink2URL: https://linhkien.cxtvn.com/8859-cau-dau-kf762-762mm.html
footprint CON 2 KF7.62-2P 7.62MM
pins: 1, 2

## CON 4 15EDG3.81-4P Xanh Cong
designator J?, comment 284513-4  (value not drawn)
Terminal Block THT Right Angle 4-Position Header 3.81mm pitch; Pitch: 0.150" (3.81mm); Voltage: 300V; Value: 4 position; Category: Connectors; Mounting Type: Through Hole; Terminal Block Type: Header, Male Pins, Right-angle, Shrouded (4 Side); Package / Case: Side Entry; 3.81mm pitch; Manufacturer Part Number 1: 284513-4; ComponentLink1Description: New link; ComponentLink1URL: https://banlinhkien.com/con-4-15edg3.814p-xanh-cong-p12117346.html
footprint CON 4 15EDG3.81-4P (TERM BLOCK HDR 4POS 3.81MM RIGHT-ANGLE)
pins: 1, 2, 3, 4

## CON 5 15EDG3.81-5P Xanh Cong
designator J?, comment 284513-5  (value not drawn)
Terminal Block THT Right Angle 5-Position Header 3.81mm pitch; Pitch: 0.150" (3.81mm); Voltage: 300V; Value: 5 position; Positions Per Level: 6; Category: Connectors; Mounting Type: Through Hole; Terminal Block Type: Header, Male Pins, Right-angle, Shrouded (4 Side); Package / Case: Side Entry; 3.81mm pitch; Manufacturer Part Number 1: 284513-5; ComponentLink1Description: New link; ComponentLink1URL: https://banlinhkien.com/con-4-15edg3.814p-xanh-cong-p12117346.html
footprint CON 5 15EDG3.81-5P (TERM BLOCK HDR 5POS 3.81MM RIGHT-ANGLE)
pins: 1, 2, 3, 4, 5

## CON 6 15EDG3.81-6P Xanh Cong
designator J?, comment 284513-6  (value not drawn)
Terminal Block THT Right Angle 6-Position Header 3.81mm pitch; Pitch: 0.150" (3.81mm); Voltage: 300V; Value: 6 position; Positions Per Level: 6; Category: Connectors; Mounting Type: Through Hole; Terminal Block Type: Header, Male Pins, Right-angle, Shrouded (4 Side); Package / Case: Side Entry; 3.81mm pitch; Manufacturer Part Number 1: 284513-6; ComponentLink1Description: Link_Digikey; ComponentLink1URL: https://www.digikey.com/en/products/detail/te-connectivity-amp-connectors/284513-6/1150189; ComponentLink2Description: CXT; ComponentLink2URL: https://linhkien.cxtvn.com/9006-cau-dau-15edg381-381mm-xanh-cong-mau-nhat.html
footprint CON 6 15EDG3.81-6P
pins: 1, 2, 3, 4, 5, 6 2

## CON 9 15EDG3.81-9P Xanh Cong
designator J?, comment 284513-9  (value not drawn)
Terminal Block THT Right Angle 9-Position Header 3.81mm pitch; Pitch: 0.150" (3.81mm); Voltage: 300V; Value: 9 position; Category: Connectors; Mounting Type: Through Hole; Terminal Block Type: Header, Male Pins, Right-angle, Shrouded (4 Side); Package / Case: Side Entry; 3.81mm pitch; Manufacturer Part Number 1: 284513-9; ComponentLink1Description: DIGIKEY; ComponentLink1URL: https://www.digikey.bg/en/products/detail/te-connectivity-amp-connectors/284513-9/1827406?s=N4IgTCBcDa4BwBYCsBGAzAWgJwgLoF8g; ComponentLink2Description: BLK; ComponentLink2URL: https://banlinhkien.com/con-9-15edg3.819p-xanh-cong-p12118760.html
footprint CON 9 15EDG3.81-9P
pins: 1, 2, 3, 4, 5, 6 2, 7 3, 8 4, 9 5

## CON_7798
designator J?, comment 7798
6 Pin Screw Terminal, Power Tap M4 Through Hole; Manufacturer: Keystone Electronics; Number Pin: 6; Description SEL: TERM SCREW M4 6 PIN PCB; Current Rating (Amps): 30A; Part Number: 7798; ComponentLink1Description: New link; ComponentLink1URL: https://www.digikey.com/en/products/detail/keystone-electronics/7798/2171014
footprint 7798
pins: 1, 2, 3, 4, 5, 6

## CON_0430451800
designator CON?, comment 0430451800
CONN HEADER VERT 18POS 3MM; Manufacturer: Molex; Description SEL: CONN HEADER R/A 18POS 3MM; Part Number: 0430451800; Footprint Type: TH; ComponentLink1Description: DIGIKEY; ComponentLink1URL: https://www.digikey.com/en/products/detail/molex/0430451800/531425; ComponentLink2Description: CXT; ComponentLink2URL: https://linhkien.cxtvn.com/4038-dau-noi-mx30mm-2-hang-chan-duc-cong.html
footprint CON_430451800
pins: 1, 2, 3, 4, 5, 6, 7, 8, 9, 10, 11, 12, 13, 14, 15, 16, 17, 18

## CON_449141801
designator J?, comment BPT1-0301010101
CONN HEADER VERT 18POS 3MM; Manufacturer: Molex; Part Number: WF3.0-27NAS; Description SEL: CONN HEADER VERT 18POS 3MM; Footprint Type: TH; ComponentLink1Description: DIGIKEY; ComponentLink1URL: https://www.digikey.com/en/products/detail/molex/0449141801/3311268
footprint 44914-1801
pins: 1, 2, 3, 4, 5, 6, 7, 8, 9, 10, 11, 12, 13, 14, 15, 16, 17, 18

## CON_0527450697
designator CON?, comment 0527450697
CONN TOP 6POS 0.5MM R/A; Manufacture 1: Molex; Mouting Type: SMD; Packing: Reel; Sort: FFC/FPC; MSL: 1; Package: 9.1x6.4x2[mm]; Temperature: -20°C ~ 85°C; ComponentLink1Description: LKCL; ComponentLink1URL: https://linhkienchatluong.vn/socket-fpc-05mm-khoa-keo-tiep-diem-tren/socket-fpc-6p-05mm-khoa-keo-tiep-diem-tren_sp1179_ct8799.aspx; ComponentLink2Description: DIGIKEY; ComponentLink2URL: https://www.digikey.bg/en/products/detail/molex/0527450697/2074143?s=N4IgTCBcDaIAwFYwHYAsC4DYCcyQF0BfIA; Pitch: 0.5mm; Manufacture Part Number 1: 0527450697
footprint CONN_0527450697
pins: 1, 2, 3, 4, 5, 6, P1, P2

## CON_5051104091
designator CON?, comment 5051104091
Socket FPC 40P 0.5mm khóa lật mở lên; Manufacture 1: Molex; Mouting Type: SMD; Sort: FFC; Packing: Reel; MSL: 1; Package: 26x5.8x2.8[mm]; Temperature: -40°C ~ 105°C; ComponentLink1Description: LKCL; ComponentLink1URL: https://linhkienchatluong.vn/socket-fpc-05mm-khoa-lat-mo/socket-fpc-40p-05mm-khoa-lat-mo-len_sp1180_ct8837.aspx; ComponentLink2Description: DIGIKEY; ComponentLink2URL: https://www.digikey.bg/en/products/detail/molex/5051104091/5254662; Pitch: 0.5mm; Manufacture Part Number 1: 5051104091
footprint CONN_5051104091
pins: 1, 2, 3, 4, 5, 6, 7, 8, 9, 10, 11, 12, 13, 14, 15, 16, 17, 18, 19, 20, 21, 22, 23, 24, 25, 26, 27, 28, 29, 30, 31, 32, 33, 34, 35, 36, 37, 38, 39, 40, P1, P2

## CON_HB9500_8P_9.5mm
designator CONN?, comment HB9500-8P
HB9500-8P 9.5mm; Part Number: HB9500; Voltage: 300V; Current: 30A; Number Pin: 8; Pitch: 9.5mm; ComponentLink1Description: LKCL; ComponentLink1URL: https://linhkienchatluong.vn/cau-dau-hb9500-co-nap/cau-dau-8p-hb9500-8p-95mm-co-nap-bao-ve_sp997_ct9544.aspx
footprint CONN_HB9500_9.5mm
pins: 1, 2, 3, 4, 5, 6, 7, 8

## CON_JST_1.25mm_Vertical
designator CONN?, comment CONN_JST_1.25mm_Vertical
Position: 7; Pitch: 1.25mm; ComponentLink1Description: Aliexpress; ComponentLink1URL: https://vi.aliexpress.com/item/4000691087661.html?gatewayAdapt=glo2vnm; Category: Connector
footprint CONN_JST_1.25mm_7P
pins: 1, 2, 3, 4, 5, 6, 7

## CON_PCB-7 M4
designator J?, comment PCB-7-M4
PCB-7 M4 Terminal 4-Leg Soldering Iron; Number Pin: 4; Current Rating (Amps): 48A; Part Number: PCB-7-M4; Description SEL: PCB-7 M4 Terminal 4-Leg Soldering Iron; ComponentLink1Description: TGIC; ComponentLink1URL: https://www.thegioiic.com/pcb-7-m4-terminal-han-mach-4-chan?gidzl=-ofw9KFo313wCdWgG-mC4lewVIXOxG51v3jyT5ZjN4pjEY0a0xLN4Bze8ojHvLz0w3mYB32CxaKDG_G940
footprint CON_PCB-7-M4
pins: 1, 2, 3, 4

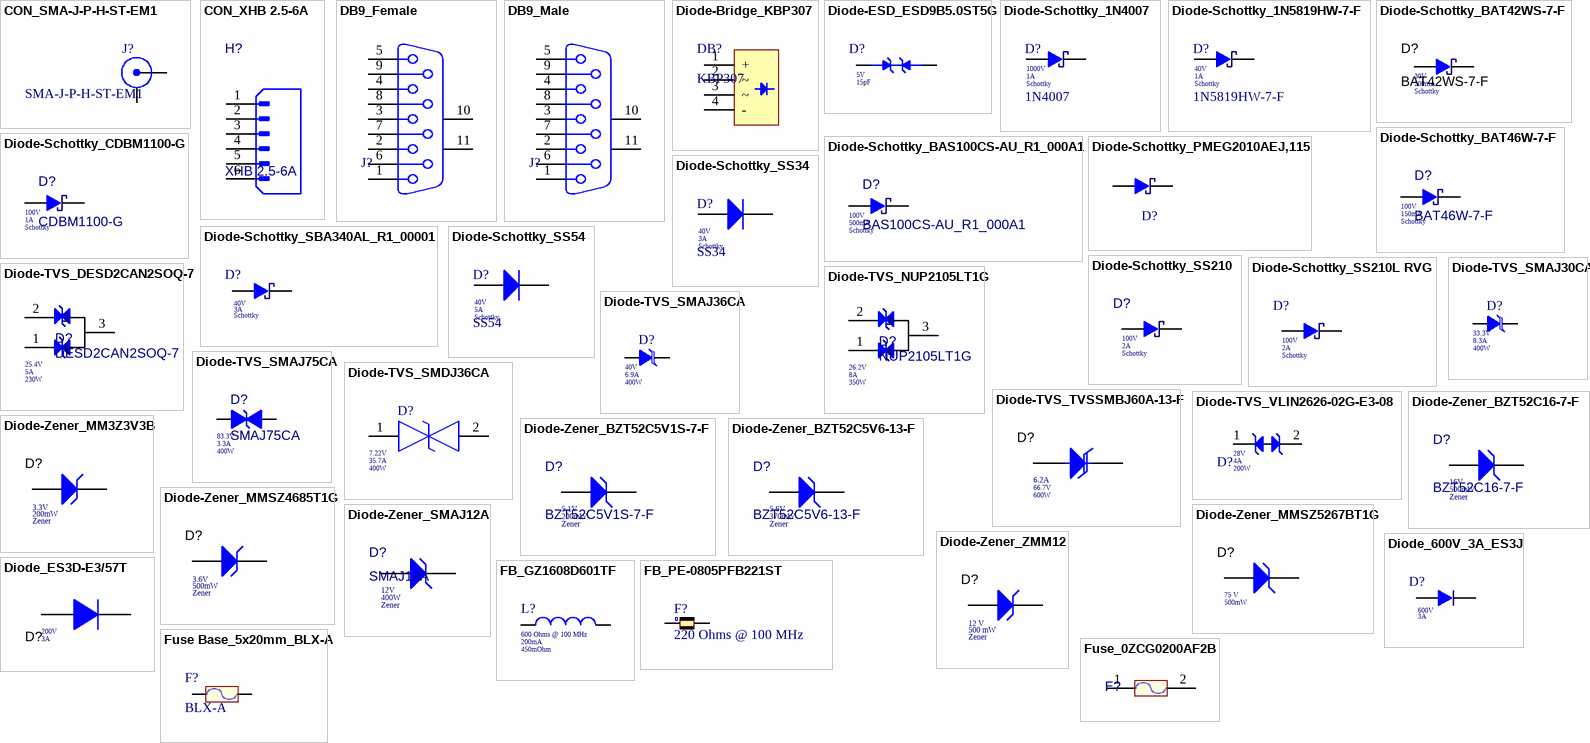
[diagram p2: symbols CON_SMA-J-P-H-ST-EM1 to Fuse_0ZCG0200AF2B]

## CON_SMA-J-P-H-ST-EM1
designator J?, comment SMA-J-P-H-ST-EM1
CONN SMA JACK STR 50OHM EDGE MNT; Manufacturer: SAMTEC; Impedance: 50 Ohms; Frequency - Max: 20 GHz; Manufacturer_Part_Number: SMA-J-P-H-ST-EM1; ComponentLink1Description: CXT; ComponentLink1URL: https://linhkien.cxtvn.com/1140-de-anten-sma-khd-cai-16mm-5-chan-thang-cao-135mm.html; ComponentLink2Description: DIGIKEY; ComponentLink2URL: https://www.digikey.com/en/products/detail/samtec-inc/SMA-J-P-H-ST-EM1/2602450
footprint CO_SAMTEC_SMA-J-P-ST-EMI
pins: 1 X, 2 Y

## CON_XHB 2.5-6A
designator H?, comment XHB 2.5-6A
Manufacturer: Molex; Description SEL: Header 6P 2.5 chân thẳng có khóa; Part Number: XHB 2.5-6A; Footprint Type: TH; ComponentLink1Description: TGIC; ComponentLink1URL: https://www.thegioiic.com/dau-xhb-6a-2-54mm-6-chan-thang-xuyen-lo
footprint XHB-6A
pins: 1, 2, 3, 4, 5, 6

## DB9_Female
designator J?, comment LK_01108  (value not drawn)
Connector, DB9 R/A Through-hole Female; Number Pin: 9; ComponentLink1Description: BLK; ComponentLink1URL: https://banlinhkien.com/db9-cai-cong-p6653347.html; Sort: Female
footprint DB9_Female
pins: 1, 2, 3, 4, 5, 6, 7, 8, 9, 10 MH1, 11 MH2

## DB9_Male
designator J?, comment LK_01111  (value not drawn)
Connector, DB9 R/A Through-hole Male; Number Pin: 9; ComponentLink1Description: New link; ComponentLink1URL: https://banlinhkien.com/db9-duc-cong-p6653350.html; Sort: Male
footprint DB9
pins: 1, 2, 3, 4, 5, 6, 7, 8, 9, 10 MH1, 11 MH2

## Diode-Bridge_KBP307
designator DB?, comment KBP307
Cắm; Manufacturer: EVVO; Voltage: 700V; Current: 3A; Voltage - Forward: 1.1 V; Part Number: KBP307; Package: 4-SIP, KBP; ComponentLink1Description: BLK; ComponentLink1URL: https://banlinhkien.com/diode-cau-3a-700v-kbp307-vuong-p6653424.html; ComponentLink2Description: DIGIKEY; ComponentLink2URL: https://www.digikey.bg/en/products/detail/evvo/KBP307/26582989
footprint DIODE-BRIDGE_KBP307
pins: 1 +, 2 ~, 3 ~, 4 -

## Diode-ESD_ESD9B5.0ST5G
designator D?, comment Capacitance: 15pF  Voltage - Reverse: 5V  (hidden comment: ESD9B5.0ST5G)
TVS DIODE 5VWM SOD923; Voltage - Breakdown: 5.8; Sort: Bidirectional; ComponentLink1Description: New link; ComponentLink1URL: https://www.digikey.bg/en/products/detail/onsemi/ESD9B5-0ST5G/1646449; Package: SOD-923
footprint Diode_ESD_ESD9B5.0ST5G
pins: 1 A, 2 A1

## Diode-Schottky_1N4007
designator D?, comment 1N4007  Sort: Schottky  Current: 1A  Voltage: 1000V
DIODE SCHOTTKY 1000V 1A SOD123; Mouting type: SMD; ComponentLink1Description: BLK; ComponentLink1URL: https://banlinhkien.com/diode-t7-sod123-1n4007-sod123-10c-p16398844.html; Package: SOD-123; MSL: 1; ComponentLink2Description: DIGIKEY; ComponentLink2URL: https://www.digikey.bg/en/products/detail/smc-diode-solutions/1N4007FL/11657817
footprint DIODE_SCHOTTKY_SS14(1N5819)
pins: 1 A, 2 K

## Diode-Schottky_1N5819HW-7-F
designator D?, comment 1N5819HW-7-F  Sort: Schottky  Current: 1A  Voltage: 40V
Diode 40 V 1A Surface Mount SOD-123; Mouting type: SMD; ComponentLink1Description: BLK; ComponentLink1URL: https://banlinhkien.com/diode-s4-sod123-1n5819-sod123-10c-p16133952.html; Package: SOD-123; MSL: 1; ComponentLink2Description: DIGIKEY; ComponentLink2URL: https://www.digikey.com/en/products/detail/diodes-incorporated/1N5819HW-7-F/814970
footprint DIODE_SCHOTTKY_SS14(1N5819)
pins: 1 A, 2 K

## Diode-Schottky_BAS100CS-AU_R1_000A1
designator D?, comment BAS100CS-AU_R1_000A1  Sort: Schottky  Current: 500mA  Voltage: 100V
Diode 100 V 500mA Surface Mount SOD-323; Manufacturer: Panjit International Inc.; Description SEL: DIODE SCHOTTKY 100V 500MA SOD323; Part Number: BAS100CS-AU_R1_000A1; Footprint Type: SMD; ComponentLink1Description: DIGIKEY; ComponentLink1URL: https://www.digikey.com/en/products/detail/panjit-international-inc/BAS100CS-AU-R1-000A1/14660870; Package: SOD-123
footprint DIODE-SCHOTTKY_BAS100CS-AU_R1_000A1_SOD323
pins: 1 A, 2 K

## Diode-Schottky_BAT42WS-7-F
designator D?, comment BAT42WS-7-F  Sort: Schottky  Voltage: 30V  Current: 200mA
DIODE SCHOTTKY 30V 200MA SOD323; Manufacturer: Diodes Inc.; Part Number: BAT42WS-7-F; Footprint Type: SMD; Packaging: SOD-323; ComponentLink1Description: DIGIKEY; ComponentLink1URL: https://www.digikey.com/en/products/detail/diodes-incorporated/BAT42WS-7-F/806536
footprint DIODE_SCHOTTKY_BAT42WS-7-F
pins: 1 A, 2 K

## Diode-Schottky_BAT46W-7-F
designator D?, comment BAT46W-7-F  Sort: Schottky  Current: 150mA  Voltage: 100V
Diode 100 V 150mA Surface Mount SOD-123; Manufacturer: Diodes Incorporated; Part Number: BAT46W-7-F; Footprint Type: SMD; ComponentLink1Description: DIGIKEY; ComponentLink1URL: https://www.digikey.bg/en/products/detail/diodes-incorporated/BAT46W-7-F/1934440; Package: SOD123
footprint DIODE-SCHOTTKY_BAT46W-7-F
pins: 1 A, 2 K

## Diode-Schottky_CDBM1100-G
designator D?, comment CDBM1100-G  Sort: Schottky  Current: 1A  Voltage: 100V
DIODE SCHOTTK 100V 1A MINI SMA; Manufacturer: Comchip Technology; Description SEL: DIODE SCHOTTKY 100V 1A MINISMA; Part Number: CDBM1100-G; ComponentLink1Description: DIGIKEY; ComponentLink1URL: https://www.digikey.com/en/products/detail/comchip-technology/CDBM1100-G/2021250?s=N4IgTCBcDaIMIBEBCBZAjGgDJgtAcRAF0BfIA; Package: SOD-123
footprint DIODE-SCHOTTKY_CDBM1100-G
pins: 1 A, 2 K

## Diode-Schottky_PMEG2010AEJ,115
designator D?, comment PMEG2010AEJ,115  (value not drawn)
DIODE SCHOTTKY 20V 1A SOD323F; Manufacturer: Nexperia USA Inc.; Current: 1A (DC); Category: DIODE; Part Number: PMEG2010AEJ,115; Footprint/Package: SOD-323F; Footprint type: SMD; Voltage: 20 V; Sort: Schottky; ComponentLink1Description: DIGIKEY; ComponentLink1URL: https://www.digikey.com/en/products/detail/nexperia-usa-inc/PMEG2010AEJ-115/1157671
footprint DIODE-SCHOTTKY_PMEG2010AEJ,115
pins: 1 A, 2 K

## Diode-Schottky_SBA340AL_R1_00001
designator D?, comment Sort: Schottky  Current: 3A  Voltage: 40V  (hidden comment: SBA340AL_R1_00001)
DIODE SCHOTTKY 40V 3A SOD123FL; ComponentLink1Description: New link; ComponentLink1URL: https://www.digikey.bg/en/products/detail/panjit-international-inc/SBA340AL-R1-00001/14660768; Part Number: SBA340AL_R1_00001; Package: SOD-123FL
footprint Diode_Schottky_SOD-123FL
pins: 1 A, 2 K

## Diode-Schottky_SS34
designator D?, comment SS34  Sort: Schottky  Current: 3A  Voltage: 40V
DIODE SCHOTTKY 40V 3A DO214AC; Manufacturer: Diode SS34 3A 40V SMA ( 1N5822 SS34A); ComponentLink1Description: New link; ComponentLink1URL: https://banlinhkien.com/diode-ss34-3a-40v-sma-1n5822-ss34a-p6652165.html; Part Number: SS34; Package: DO-214AC (SMA)
footprint DIODE_SS34_1N5822 (SMA)
footprint DIODE_SS34_DO-214AB
pins: 1 A, 2 K

## Diode-Schottky_SS54
designator D?, comment SS54  Sort: Schottky  Current: 5A  Voltage: 40V
DIODE SCHOTTKY 40V 5A DO214AC; Manufacturer: Diode SS54 5A 40V SMA ( 1N5822 SS34A); ComponentLink1Description: LKCL; ComponentLink1URL: https://linhkienchatluong.vn/diode-schottky/1n5824-ss54-sma-diode-schottky-5a-40v-chinh-hang-mic-10c_sp571_ct15006.aspx; Part Number: SS54; Package: DO-214AC (SMA); ComponentLink2Description: DIGIKEY; ComponentLink2URL: https://www.digikey.com/en/products/detail/shenzhen-slkormicro-semicon-co-ltd/SS54/21853075
footprint DIODE_SS34_1N5822 (SMA)
footprint DIODE_SS34_DO-214AB
pins: 1 A, 2 K

## Diode-Schottky_SS210
designator D?, comment Sort: Schottky  Current: 2A  Voltage: 100V  (hidden comment: SS210)
Diode 100 V 2A Surface Mount DO-214AA (SMB); Manufacturer: TAIWAN SEMICONDUCTOR; Description SEL: DIODE SCHOTTKY 100V 2A DO214AA; Part Number: SS210; Footprint Type: SMD; ComponentLink1Description: TGIC; ComponentLink1URL: https://www.thegioiic.com/ss210-sma-diode-schottky-2a-100v; ComponentLink2Description: DIGIKEY; ComponentLink2URL: https://www.digikey.bg/en/products/detail/taiwan-semiconductor-corporation/SS210/7369371
footprint DIODE-SCHOTTKY_SS210_DO214 (DO214)
pins: 1 A, 2 K

## Diode-Schottky_SS210L RVG
designator D?, comment Sort: Schottky  Voltage: 100V  Current: 2A  (hidden comment: SS210L RVG)
DIODE SCHOTTKY 100V 2A SUB SMA; Manufacturer: Taiwan Semiconductor Corporation; Voltage - Forward (Vf) (Max) @ If: 850 mV @ 2 A; Category: DIODE; Part Number: SS210L RVG; Footprint/Package: DO-219AB; Voltage - DC Reverse (Vr) (Max): 100V; Current - Average Rectified (Io): 2A; ComponentLink1Description: DIGIKEY; ComponentLink1URL: https://www.digikey.com/en/products/detail/taiwan-semiconductor-corporation/SS210L-RVG/7359492
footprint DIODE-SCHOTTKY_SS210L RVG_DO-214AC
pins: 1 A, 2 K

## Diode-TVS_DESD2CAN2SOQ-7
designator D?, comment DESD2CAN2SOQ-7  Current - Peak Pulse: 5A  Power: 230W  Voltage - Breakdown: 25.4V
TVS DIODE 24VWM 41VC SOT233; Manufacturer: Diodes Incorporated; Sort: Zener; Voltage - Reverse: 24V; Voltage - Clamping: 41V; Part Number: DESD2CAN2SOQ-7; Description SEL: TVS DIODE 24VWM 41VC SOT233; Footprint Type: SMD; ComponentLink1Description: DIGIKEY; ComponentLink1URL: https://www.digikey.bg/en/products/detail/diodes-incorporated/DESD2CAN2SOQ-7/5080327?s=N4IgTCBcDaICIFEDKcwGECCA5MSDyAigLQDsIAugL5A
footprint DIODE-TVS_DESD2CAN2SOQ-7_SOT23
pins: 1, 2, 3

## Diode-TVS_NUP2105LT1G
designator D?, comment NUP2105LT1G  Current - Peak Pulse: 8A  Power: 350W  Voltage - Breakdown: 26.2V
TVS DIODE 24VWM 44VC SOT233; Manufacturer: onsemi; Description SEL: TVS DIODE 24VWM 41VC SOT23; Sort: BIDIRECTIONAL; Voltage - Reverse: 24V; Voltage - Clamping: 44V; Part Number: NUP2105LT1G; Footprint Type: SMD; ComponentLink1Description: DIGIKEY; ComponentLink1URL: https://www.digikey.bg/en/products/detail/onsemi/NUP2105LT1G/1749081
footprint DIODE-TVS_NUP2105LT1G_SOT233
pins: 1, 2, 3

## Diode-TVS_SMAJ30CA
designator D?, comment Current: 8.3A  Voltage - Breakdown: 33.3V  Power: 400W  (hidden comment: SMAJ30CA)
TVS DIODE 30VWM 48.4VC DO214AC; Manufacturer: Littelfuse; Voltage - Clamping (Vcl): 48.4V; Polarity: Unidirectional; Voltage - Reverse Standoff (Vrwm): 30V; Diode Type: TVS Diode; Mounting Type: Surface Mount (SMD); Manufacturer Part Number: SMAJ30CA; ComponentLink1Description: CXT; ComponentLink1URL: https://linhkien.cxtvn.com/6001-smaj30ca-tvs-diode-30v-83a-smado-214ac.html; ComponentLink2Description: DIGIKEY; ComponentLink2URL: https://www.digikey.gr/en/products/detail/littelfuse-inc/SMAJ30CA/762295; Package: DO-214AC (SMA)
footprint DO214AC-SMA
pins: 1 C, 2 A

## Diode-TVS_SMAJ36CA
designator D?, comment Current: 6.9A  Voltage - Breakdown: 40V  Power: 400W  (hidden comment: SMAJ36CA)
TVS DIODE 36VWM 58.1VC DO214AC; Manufacturer: Littelfuse; Voltage - Clamping (Vcl): 58.1V; Polarity: Bidirectional; Voltage - Reverse Standoff (Vrwm): 36V; Diode Type: TVS Diode; Mounting Type: Surface Mount (SMD); Manufacturer Part Number: SMAJ36CA; ComponentLink1Description: CXT; ComponentLink1URL: https://linhkien.cxtvn.com/2361-smaj36ca-tvs-diode-36v-581v-smado214ac.html; ComponentLink2Description: DIGIKEY; ComponentLink2URL: https://www.digikey.com/en/products/detail/littelfuse-inc/SMAJ36CA/762299; Package: DO-214AC (SMA)
footprint DO214AC-SMA
pins: 1 C, 2 A

## Diode-TVS_SMAJ75CA
designator D?, comment SMAJ75CA  Current - Peak Pulse: 3.3A  Power - Peak Pulse: 400W  Voltage-Breakdown: 83.3V
121V Clamp 3.3A Ipp Tvs Diode Surface Mount DO-214AC (SMA); Description SEL: TVS DIODE 75VWM 121VC; Voltage-Reverse: 75V; Sort: Bidirectional; Part Number: SMAJ75CA; ComponentLink1Description: DIGIKEY; ComponentLink1URL: https://www.digikey.com/en/products/detail/bourns-inc/SMAJ75CA/2254545; Voltage - Clamping (Max): 121V; Package: DO214AC
footprint DIODE-TVS_DO-214AC_SMAJ75CA
pins: 1 A, 2 K

## Diode-TVS_SMDJ36CA
designator D?, comment Power - Peak Pulse: 400W  Current - Peak Pulse: 35.7A  Voltage - Breakdown (Min): 7.22V  (hidden comment: SMAJ6.5CA)
11.2V Clamp 35.7A Ipp Tvs Diode Surface Mount DO-214AC (SMA); Description SEL: TVS DIODE 6.5VWM 11.2VC DO214AC; Voltage - Reverse: 6.5V; Sort: Bidirectional; Part Number: SMAJ6.5CA; ComponentLink1Description: New link; ComponentLink1URL: https://www.digikey.com/en/products/detail/littelfuse-inc/SMAJ6-5CA/762255; Voltage - Clamping (Max): 11.2V; Package: DO-214AC, SMA
footprint DO-214AC
pins: 1, 2